# Altium schematic symbol library EL-sense_Vref.SchLib: 1 symbol
Pins are listed as number, name and electrical type; pins without a type are passive.

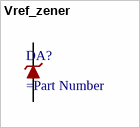
[diagram p0: symbol Vref_zener]

## Vref_zener
designator DA?
pins: 1 +V, 2 -V